# EAGLE library part SDS011 (library gas-sensors)
NOVA FITNESS Laser PM UART SENSOR
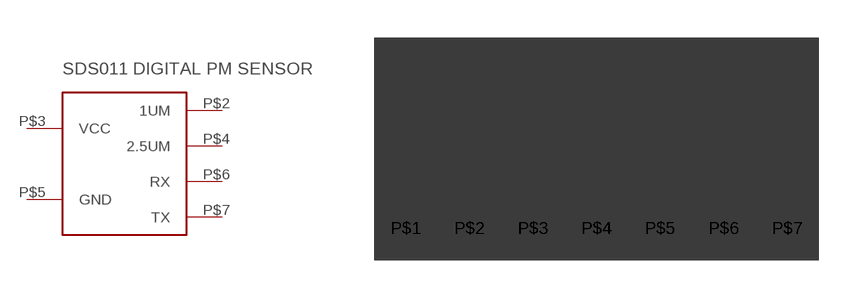
[diagram p0: symbol with the pads of SDS011; footprint SDS011]

Designator prefix -

## SDS011  [SDS011]
P$2  1UM
P$3  VCC
P$4  2.5UM
P$5  GND
P$6  RX
P$7  TX

## Footprint SDS011 (pad centres in mm)
drill 0.6 square: P$1 1.27,1.27; P$2 3.81,1.27; P$3 6.35,1.27; P$4 8.89,1.27; P$5 11.43,1.27; P$6 13.97,1.27; P$7 16.51,1.27
hole 0.35 at 1.27,1.27
hole 0.35 at 3.81,1.27
hole 0.35 at 6.35,1.27
hole 0.35 at 8.89,1.27
hole 0.35 at 11.43,1.27
hole 0.35 at 13.97,1.27
hole 0.35 at 16.51,1.27